# EAGLE library part MOLEX_105450-0101 (library Upverter Library)
USB - C USB 3.1, Superspeed+ Receptacle Connector 24 Position Surface Mount, Right Angle; Through Hole
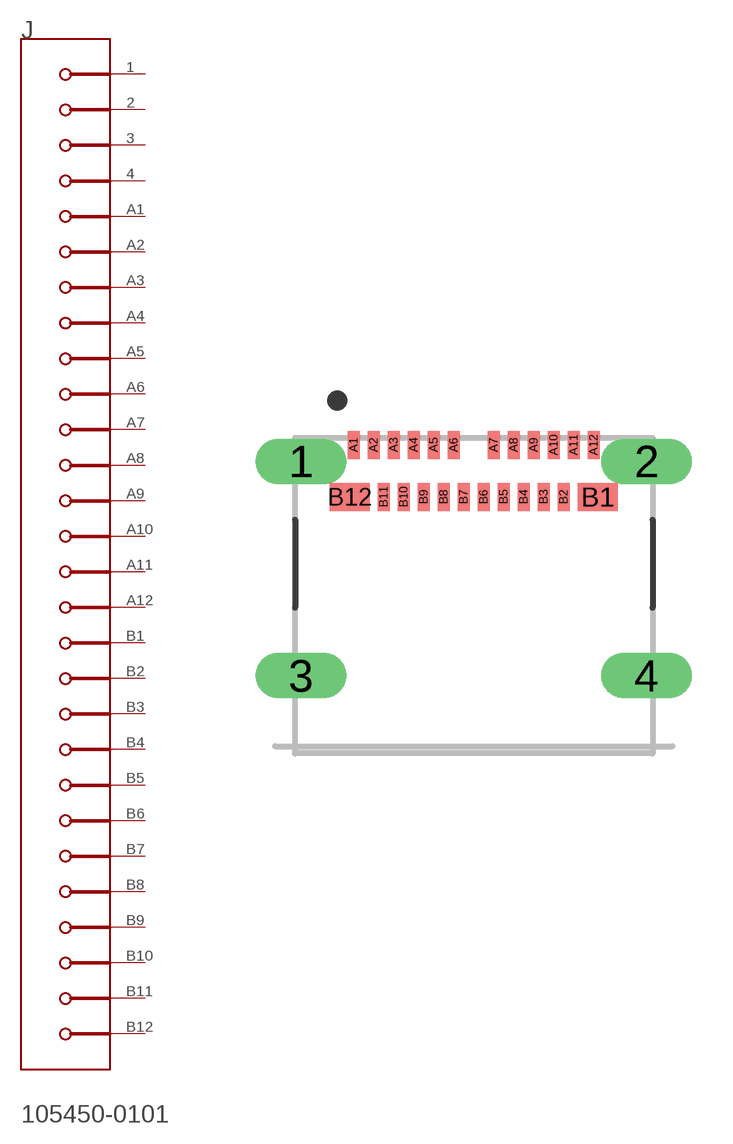
[diagram p0: symbol with the pads of MOLEX_105450-0101_0; footprint MOLEX_105450-0101_0]

Designator prefix J

## MOLEX_105450-0101MOLEX_105450-0101_0_0 (Contact_Finish: Gold; Current_Rating: 0.25A, 1A, 5A; MF: Molex; MPN: 105450-0101; Mating_Cycles: 10000; Number_of_Ports: 1; Shielding: Shielded; Voltage_-_Rated: 30VAC/DC; centroid_not_specified: No; datasheet: http://www.molex.com/pdm_docs/sd/1054500101_sd.pdf; description: USB - C USB 3.1, Superspeed+ Receptacle Connector 24 Position Surface Mount, Right Angle; Through Hole; digikey_description: CONN RCPT USB C 3.1 SMT R/A; digikey_part_number: WM12856CT-ND; is_female: yes; lead_free: yes; mouser_part_number: 538-105450-0101; package: CONN_SMT_8MM94_7MM9_USB; prefix: J; rohs: yes; temperature_range_high: +85°C; temperature_range_low: -30°C)  [MOLEX_105450-0101_0]
1  MNT_1
2  MNT_2
3  MNT_3
4  MNT_4
A1  1_GND  pwr
A2  TX1+
A3  TX1-
A4  1_VBUS  pwr
A5  CC1
A6  1_D+
A7  1_D-
A8  SBU1
A9  2_VBUS  pwr
A10  RX2-
A11  RX2+
A12  2_GND  pwr
B1  3_GND  pwr
B2  TX2+
B3  TX2-
B4  3_VBUS  pwr
B5  CC2
B6  2_D+
B7  2_D-
B8  SBU2
B9  4_VBUS  pwr
B10  RX1-
B11  RX1+
B12  4_GND  pwr

## Footprint MOLEX_105450-0101_0 (pad centres in mm)
USB - C USB 3.1, Superspeed+ Receptacle Connector 24 Position Surface Mount, Right Angle; Through Hole
drill 0.635 pad 1.067 long: 1 -4.32,3.36; 2 4.32,3.36; 3 -4.32,-2; 4 4.32,-2
smd 0.3 x 0.7: A1 -3,3.77; A2 -2.5,3.77; A3 -2,3.77; A4 -1.5,3.77; A5 -1,3.77; A6 -0.5,3.77; A7 0.5,3.77; A8 1,3.77; A9 1.5,3.77; A10 2,3.77; A11 2.5,3.77; A12 3,3.77; B2 2.25,2.47; B3 1.75,2.47; B4 1.25,2.47; B5 0.75,2.47; B6 0.25,2.47; B7 -0.25,2.47; B8 -0.75,2.47; B9 -1.25,2.47; B10 -1.75,2.47; B11 -2.25,2.47
smd 1 x 0.7: B1 3.1,2.47; B12 -3.1,2.47